# Altium footprint library coilcraft.PCBLIB: 3 footprints
Each footprint in its own frame and in the unit in brackets; x right, y up, seen from the top. Pads: shape width x height; smd on the part's side, far side on the other; paste and mask are expansions set on the pad; w line width, h text height; cw(c..) or ccw(c..) is an arc to the next point about the centre after c.
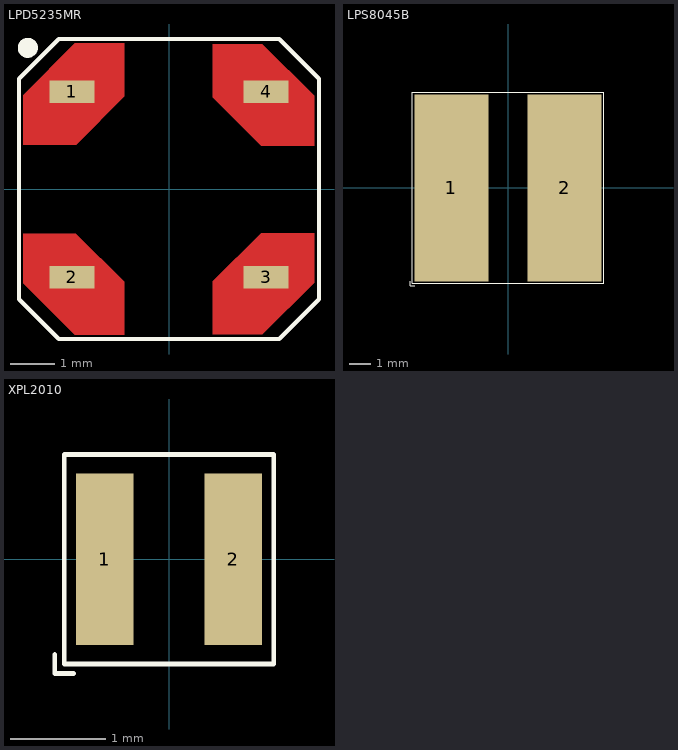
[diagram p0: the footprints below, top view; thin cyan lines are the x and y axes]

## LPD5235MR [mil]
pads (4):
  rect 40x20 smd: 1(-86.61,86.61) 2(-86.61,-78.74) 3(86.61,-78.74) 4(86.61,86.61)
Top Layer:
  region: 83.3,-129.49 39,-129.5 39,-82.5 82.3,-39.49 129.54,-39.48 129.55,-83.48
  region: -130.01,-40 -130.01,-84 -84.01,-130 -40,-130 -40,-129.99 -40,-129.98 -40,-82.99 -40.02,-82.99 -83.01,-40
  region: 129.55,83 129.56,38.71 82.31,38.7 39,82 38.99,129.24 83.28,129.25
  region: -84,130.13 -40,130.14 -40,82.9 -82.99,39.58 -129.99,39.57 -130,83.87
Top Overlay:
  circle w10: c-125.98,125.98 r3.94
  lines w3.94: -133.86,-98.43 -133.86,98.43 -98.43,133.86 98.43,133.86 133.86,98.43 133.86,-98.43 98.43,-133.86 -98.43,-133.86 -133.86,-98.43
Top Paste:
  region: 83.3,-129.49 39,-129.5 39,-82.5 82.3,-39.49 129.54,-39.48 129.55,-83.48
  region: -130.01,-40 -130.01,-84 -84.01,-130 -40,-130 -40,-129.99 -40,-129.98 -40,-82.99 -40.02,-82.99 -83.01,-40
  region: 129.55,83 129.56,38.71 82.31,38.7 39,82 38.99,129.24 83.28,129.25
  region: -84,130.13 -40,130.14 -40,82.9 -82.99,39.58 -129.99,39.57 -130,83.87
Top Solder:
  region: -84,130.13 -40,130.14 -40,82.9 -82.99,39.58 -129.99,39.57 -130,83.87
  region: 129.55,83 129.56,38.71 82.31,38.7 39,82 38.99,129.24 83.28,129.25
  region: -130.01,-40 -130.01,-84 -84.01,-130 -40,-130 -40,-129.99 -40,-129.98 -40,-82.99 -40.02,-82.99 -83.01,-40
  region: 83.3,-129.49 39,-129.5 39,-82.5 82.3,-39.49 129.54,-39.48 129.55,-83.48
3D body: height 78.74, standoff 0, extent -129.92,-129.92 129.92,129.92

## LPS8045B [mm]
height 4.7
pads (2):
  rect 3.4x8.61 smd: 1(-2.605,0) 2(2.605,0)
Top Overlay:
  lines w0.05: -4.5,-4.3 -4.5,-4.5 -4.3,-4.5 ; -4.4,-4.4 -4.4,4.4 4.4,4.4 4.4,-4.4 -4.4,-4.4
3D body: height 4.7, standoff 0.1, extent -4,-4 4,4

## XPL2010 [mm]
height 1
pads (2):
  rect 0.6x1.8 smd: 1(-0.675,0) 2(0.675,0)
Top Overlay:
  lines w0.05: -1.2,-1 -1.2,-1.2 -1,-1.2 ; -1.1,-1.1 -1.1,1.1 1.1,1.1 1.1,-1.1 -1.1,-1.1
3D body: height 1.5, standoff 0.1, extent -1,-1 1,1